# Altium schematic symbol library IRF7319TRPBF.SchLib: 2 symbols
Pins are listed as number, name and electrical type; pins without a type are passive.

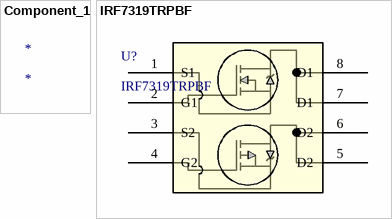
[diagram p0: symbols Component_1 to IRF7319TRPBF]

## Component_1
designator *

## IRF7319TRPBF
designator U?
No Description Available; Mfr_Name: Infineon; Copyright: Copyright (C) 2022 Ultra Librarian. All rights reserved.; Manufacturer_Part_Number: IRF7319TRPBF; RefDes: RefDes; Type: DEV
footprint TRANS_IRF7103TRPBF_INF
pins: 1 S1, 2 G1, 3 S2, 4 G2, 5 D2, 6 D2, 7 D1, 8 D1